# EAGLE library part 218-08 (library switch-dil)
DIP SWITCH
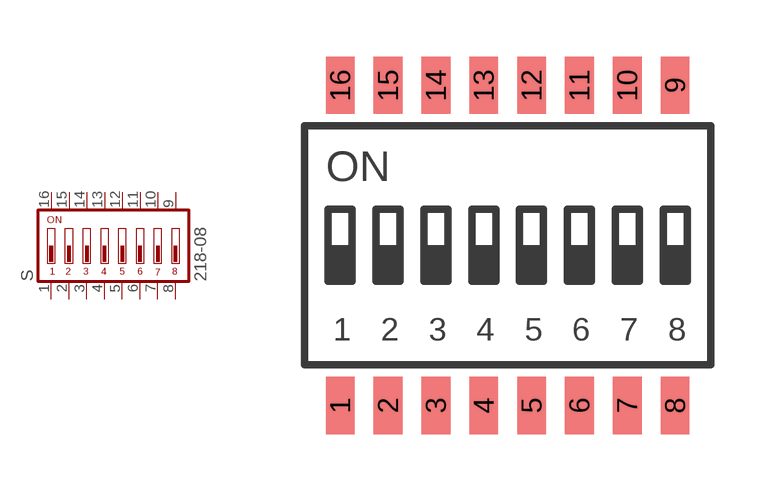
[diagram p67: symbol with the pads of 218-08; footprint 218-08]

Designator prefix S

## 218-08  [218-08]
1  1  pas
2  2  pas
3  3  pas
4  4  pas
5  5  pas
6  6  pas
7  7  pas
8  8  pas
9  9  pas
10  10  pas
11  11  pas
12  12  pas
13  13  pas
14  14  pas
15  15  pas
16  16  pas

## Footprint 218-08 (pad centres in mm)
CTS SERIES 218LP - Gull Wing Terminal
smd 0.762 x 1.524: 1 -4.445,-4.245; 2 -3.175,-4.245; 3 -1.905,-4.245; 4 -0.635,-4.245; 5 0.635,-4.245; 6 1.905,-4.245; 7 3.175,-4.245; 8 4.445,-4.245; 9 4.445,4.245; 10 3.175,4.245; 11 1.905,4.245; 12 0.635,4.245; 13 -0.635,4.245; 14 -1.905,4.245; 15 -3.175,4.245; 16 -4.445,4.245